# Altium schematic symbol library SM04B-SRSS-TB(LF)(SN).SchLib: 1 symbol
Pins are listed as number, name and electrical type; pins without a type are passive.

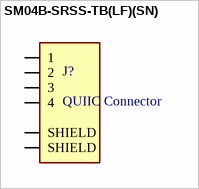
[diagram p0: symbol SM04B-SRSS-TB(LF)(SN)]

## SM04B-SRSS-TB(LF)(SN)
designator J?, comment QUIIC Connector
SH Series 1.0 mm Pitch 2 Position Single Row Side Entry Shrouded Header; MP: SM04B-SRSS-TB(LF)(SN); Value: *; Availability: Unavailable; Price: None; Package: None
footprint JST_SM04B-SRSS-TB(LF)(SN)
pins: 1, 2, 3, 4, S1 SHIELD, S2 SHIELD